# EAGLE library part LMR33630ADDA (library LMR33630A)
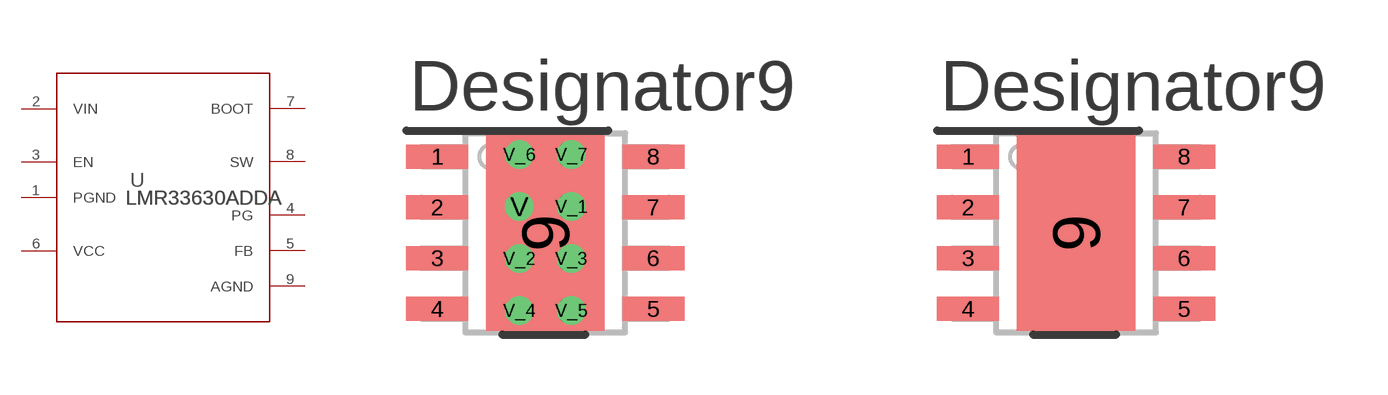
[diagram p0: symbol with the pads of DDA0008J; footprints DDA0008J, DDA0008J_NV]

Designator prefix U

## LMR33630ADDADDA0008J (Copyright: Copyright (C) 2025 Ultra Librarian. All rights reserved.; Datasheet: https://www.ti.com/lit/gpn/lmr33630; Description: SIMPLE SWITCHER® 3.8V to 36V, 3A Synchronous Buck Converter With Ultra-Low EMI 8-SO PowerPAD -40 to 125; Manufacturer_Name: Texas Instruments; Manufacturer_Part_Number: LMR33630ADDA; RefDes: RefDes; TYPE: TYPE)  [DDA0008J]
1  PGND  pwr
2  VIN  pwr
3  EN  in
4  PG  oc
5  FB  in
6  VCC  pwr
7  BOOT  pwr
8  SW  pwr
9  AGND  pas

## LMR33630ADDADDA0008J_NV (Copyright: Copyright (C) 2025 Ultra Librarian. All rights reserved.; Datasheet: https://www.ti.com/lit/gpn/lmr33630; Description: SIMPLE SWITCHER® 3.8V to 36V, 3A Synchronous Buck Converter With Ultra-Low EMI 8-SO PowerPAD -40 to 125; Manufacturer_Name: Texas Instruments; Manufacturer_Part_Number: LMR33630ADDA; RefDes: RefDes; TYPE: TYPE)  [DDA0008J_NV]
Pads as for DDA0008J

## Footprint DDA0008J (pad centres in mm)
smd 1.55 x 0.6: 1 -2.7,1.905; 2 -2.7,0.635; 3 -2.7,-0.635; 4 -2.7,-1.905; 5 2.7,-1.905; 6 2.7,-0.635; 7 2.7,0.635; 8 2.7,1.905
smd 2.95 x 4.9: 9 0,0
drill 0.203 pad 0.5 round: V -0.65,0.65; V_1 0.65,0.65; V_2 -0.65,-0.65; V_3 0.65,-0.65; V_4 -0.65,-1.95; V_5 0.65,-1.95; V_6 -0.65,1.95; V_7 0.65,1.95

## Footprint DDA0008J_NV (pad centres in mm)
smd 1.55 x 0.6: 1 -2.7,1.905; 2 -2.7,0.635; 3 -2.7,-0.635; 4 -2.7,-1.905; 5 2.7,-1.905; 6 2.7,-0.635; 7 2.7,0.635; 8 2.7,1.905
smd 2.95 x 4.9: 9 0,0